# Altium integrated library Microchip PIC18.IntLib: 1897 symbols (part 80 of 110)
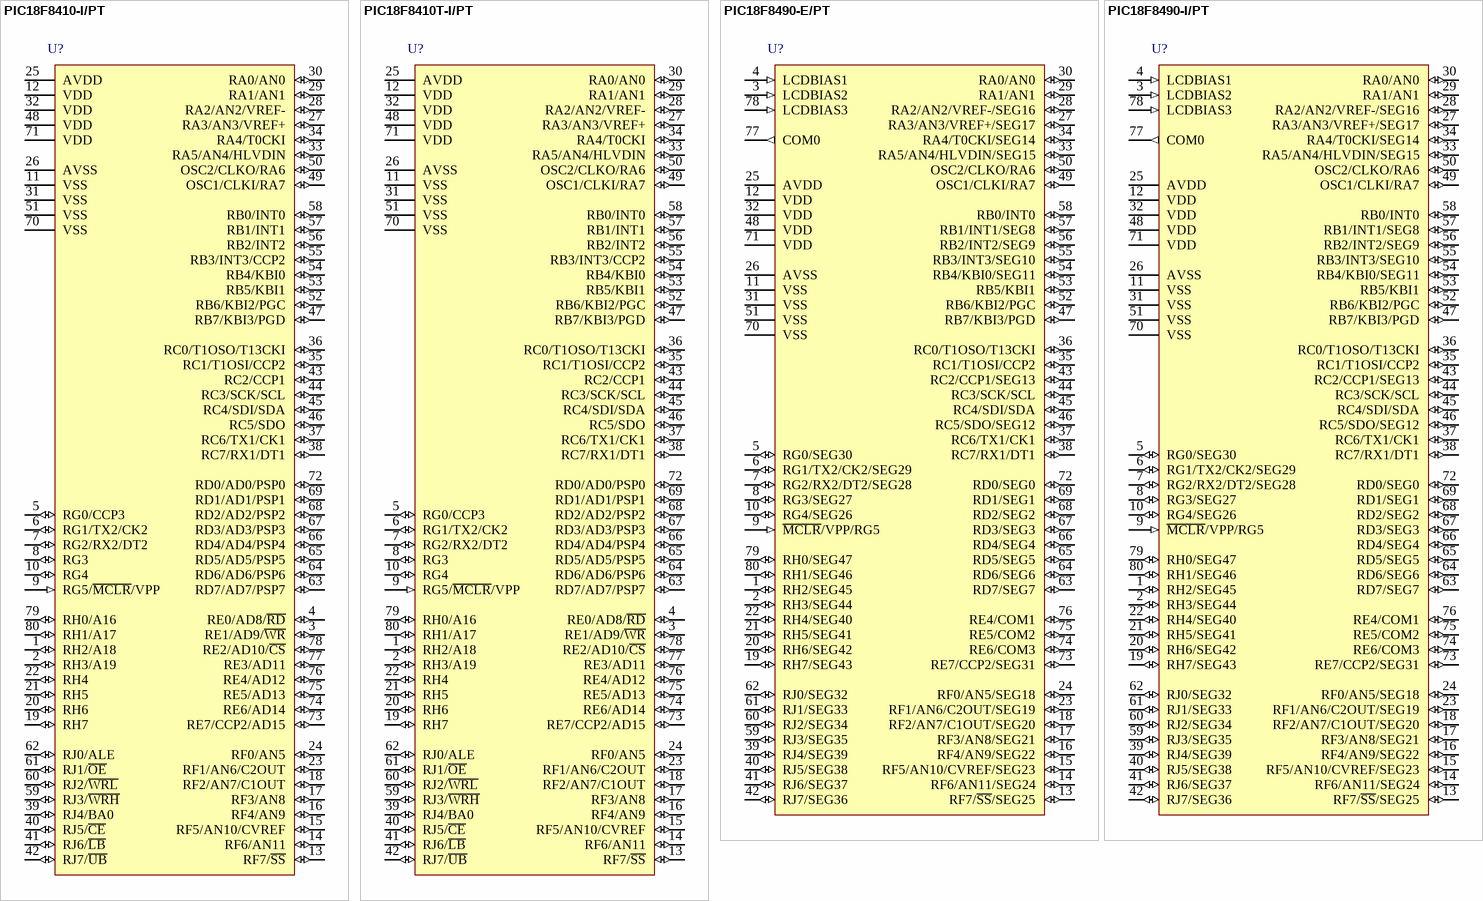
[diagram p362: symbols PIC18F8410-I/PT to PIC18F8490-I/PT]

## PIC18F8490-E/PT
designator U?
Flash Microcontroller with LCD Driver and nanoWatt Technology, 16K Flash, 80-Pin TQFP, Extended Temperature Range; Manufacturer: Microchip; PartNumber: PIC18F8490-E/PT; DatasheetVersion: revC, Nov-2007; PackageVersion: C04-092B, 12/2012; PackageReference: TQFP-PT80; PackageDescription: 80-Lead Plastic Thin Quad FlatPack, 12 x 12 mm Body, 0.5 mm Pitch; ComponentLink1Description: Manufacturer URL; ComponentLink1URL: http://www.microchip.com/; ComponentLink2Description: Datasheet; ComponentLink2URL: http://ww1.microchip.com/downloads/en/DeviceDoc/39629c.pdf; ComponentLink3Description: Package Specification; ComponentLink3URL: http://www.microchip.com/stellent/groups/techpub_sg/documents/packagingspec/en012702.pdf
footprint MCHP-TQFP-PT80_N (QFN, 80-Leads, Body 12x12mm, Pitch 0.5mm, IPC Medium Density)
footprint MCHP-TQFP-PT80_L (QFN, 80-Leads, Body 12x12mm, Pitch 0.5mm, IPC High Density)
footprint MCHP-TQFP-PT80_M (QFN, 80-Leads, Body 12x12mm, Pitch 0.5mm, IPC Low Density)
pins: 1 RH2/SEG45 (io), 2 RH3/SEG44 (io), 3 LCDBIAS2 (in), 4 LCDBIAS1 (in), 5 RG0/SEG30 (io), 6 RG1/TX2/CK2/SEG29 (io), 7 RG2/RX2/DT2/SEG28 (io), 8 RG3/SEG27 (io), 9 ~{MCLR}/VPP/RG5 (in), 10 RG4/SEG26 (io), 11 VSS (power), 12 VDD (power), 13 RF7/~{SS}/SEG25 (io), 14 RF6/AN11/SEG24 (io), 15 RF5/AN10/CVREF/SEG23 (io), 16 RF4/AN9/SEG22 (io), 17 RF3/AN8/SEG21 (io), 18 RF2/AN7/C1OUT/SEG20 (io), 19 RH7/SEG43 (io), 20 RH6/SEG42 (io), 21 RH5/SEG41 (io), 22 RH4/SEG40 (io), 23 RF1/AN6/C2OUT/SEG19 (io), 24 RF0/AN5/SEG18 (io), 25 AVDD (power), 26 AVSS (power), 27 RA3/AN3/VREF+/SEG17 (io), 28 RA2/AN2/VREF-/SEG16 (io), 29 RA1/AN1 (io), 30 RA0/AN0 (io), 31 VSS (power), 32 VDD (power), 33 RA5/AN4/HLVDIN/SEG15 (io), 34 RA4/T0CKI/SEG14 (io), 35 RC1/T1OSI/CCP2 (io), 36 RC0/T1OSO/T13CKI (io), 37 RC6/TX1/CK1 (io), 38 RC7/RX1/DT1 (io), 39 RJ4/SEG39 (io), 40 RJ5/SEG38 (io), 41 RJ6/SEG37 (io), 42 RJ7/SEG36 (io), 43 RC2/CCP1/SEG13 (io), 44 RC3/SCK/SCL (io), 45 RC4/SDI/SDA (io), 46 RC5/SDO/SEG12 (io), 47 RB7/KBI3/PGD (io), 48 VDD (power), 49 OSC1/CLKI/RA7 (io), 50 OSC2/CLKO/RA6 (io), 51 VSS (power), 52 RB6/KBI2/PGC (io), 53 RB5/KBI1 (io), 54 RB4/KBI0/SEG11 (io), 55 RB3/INT3/SEG10 (io), 56 RB2/INT2/SEG9 (io), 57 RB1/INT1/SEG8 (io), 58 RB0/INT0 (io), 59 RJ3/SEG35 (io), 60 RJ2/SEG34 (io), 61 RJ1/SEG33 (io), 62 RJ0/SEG32 (io), 63 RD7/SEG7 (io), 64 RD6/SEG6 (io), 65 RD5/SEG5 (io), 66 RD4/SEG4 (io), 67 RD3/SEG3 (io), 68 RD2/SEG2 (io), 69 RD1/SEG1 (io), 70 VSS (power), 71 VDD (power), 72 RD0/SEG0 (io), 73 RE7/CCP2/SEG31 (io), 74 RE6/COM3 (io), 75 RE5/COM2 (io), 76 RE4/COM1 (io), 77 COM0 (out), 78 LCDBIAS3 (in), 79 RH0/SEG47 (io), 80 RH1/SEG46 (io)

## PIC18F8490-I/PT
designator U?
Flash Microcontroller with LCD Driver and nanoWatt Technology, 16K Flash, 80-Pin TQFP, Industrial Temperature Range; Manufacturer: Microchip; PartNumber: PIC18F8490-I/PT; DatasheetVersion: revC, Nov-2007; PackageVersion: C04-092B, 12/2012; PackageReference: TQFP-PT80; PackageDescription: 80-Lead Plastic Thin Quad FlatPack, 12 x 12 mm Body, 0.5 mm Pitch; ComponentLink1Description: Manufacturer URL; ComponentLink1URL: http://www.microchip.com/; ComponentLink2Description: Datasheet; ComponentLink2URL: http://ww1.microchip.com/downloads/en/DeviceDoc/39629c.pdf; ComponentLink3Description: Package Specification; ComponentLink3URL: http://www.microchip.com/stellent/groups/techpub_sg/documents/packagingspec/en012702.pdf
footprint MCHP-TQFP-PT80_N (QFN, 80-Leads, Body 12x12mm, Pitch 0.5mm, IPC Medium Density)
footprint MCHP-TQFP-PT80_L (QFN, 80-Leads, Body 12x12mm, Pitch 0.5mm, IPC High Density)
footprint MCHP-TQFP-PT80_M (QFN, 80-Leads, Body 12x12mm, Pitch 0.5mm, IPC Low Density)
pins: 1 RH2/SEG45 (io), 2 RH3/SEG44 (io), 3 LCDBIAS2 (in), 4 LCDBIAS1 (in), 5 RG0/SEG30 (io), 6 RG1/TX2/CK2/SEG29 (io), 7 RG2/RX2/DT2/SEG28 (io), 8 RG3/SEG27 (io), 9 ~{MCLR}/VPP/RG5 (in), 10 RG4/SEG26 (io), 11 VSS (power), 12 VDD (power), 13 RF7/~{SS}/SEG25 (io), 14 RF6/AN11/SEG24 (io), 15 RF5/AN10/CVREF/SEG23 (io), 16 RF4/AN9/SEG22 (io), 17 RF3/AN8/SEG21 (io), 18 RF2/AN7/C1OUT/SEG20 (io), 19 RH7/SEG43 (io), 20 RH6/SEG42 (io), 21 RH5/SEG41 (io), 22 RH4/SEG40 (io), 23 RF1/AN6/C2OUT/SEG19 (io), 24 RF0/AN5/SEG18 (io), 25 AVDD (power), 26 AVSS (power), 27 RA3/AN3/VREF+/SEG17 (io), 28 RA2/AN2/VREF-/SEG16 (io), 29 RA1/AN1 (io), 30 RA0/AN0 (io), 31 VSS (power), 32 VDD (power), 33 RA5/AN4/HLVDIN/SEG15 (io), 34 RA4/T0CKI/SEG14 (io), 35 RC1/T1OSI/CCP2 (io), 36 RC0/T1OSO/T13CKI (io), 37 RC6/TX1/CK1 (io), 38 RC7/RX1/DT1 (io), 39 RJ4/SEG39 (io), 40 RJ5/SEG38 (io), 41 RJ6/SEG37 (io), 42 RJ7/SEG36 (io), 43 RC2/CCP1/SEG13 (io), 44 RC3/SCK/SCL (io), 45 RC4/SDI/SDA (io), 46 RC5/SDO/SEG12 (io), 47 RB7/KBI3/PGD (io), 48 VDD (power), 49 OSC1/CLKI/RA7 (io), 50 OSC2/CLKO/RA6 (io), 51 VSS (power), 52 RB6/KBI2/PGC (io), 53 RB5/KBI1 (io), 54 RB4/KBI0/SEG11 (io), 55 RB3/INT3/SEG10 (io), 56 RB2/INT2/SEG9 (io), 57 RB1/INT1/SEG8 (io), 58 RB0/INT0 (io), 59 RJ3/SEG35 (io), 60 RJ2/SEG34 (io), 61 RJ1/SEG33 (io), 62 RJ0/SEG32 (io), 63 RD7/SEG7 (io), 64 RD6/SEG6 (io), 65 RD5/SEG5 (io), 66 RD4/SEG4 (io), 67 RD3/SEG3 (io), 68 RD2/SEG2 (io), 69 RD1/SEG1 (io), 70 VSS (power), 71 VDD (power), 72 RD0/SEG0 (io), 73 RE7/CCP2/SEG31 (io), 74 RE6/COM3 (io), 75 RE5/COM2 (io), 76 RE4/COM1 (io), 77 COM0 (out), 78 LCDBIAS3 (in), 79 RH0/SEG47 (io), 80 RH1/SEG46 (io)

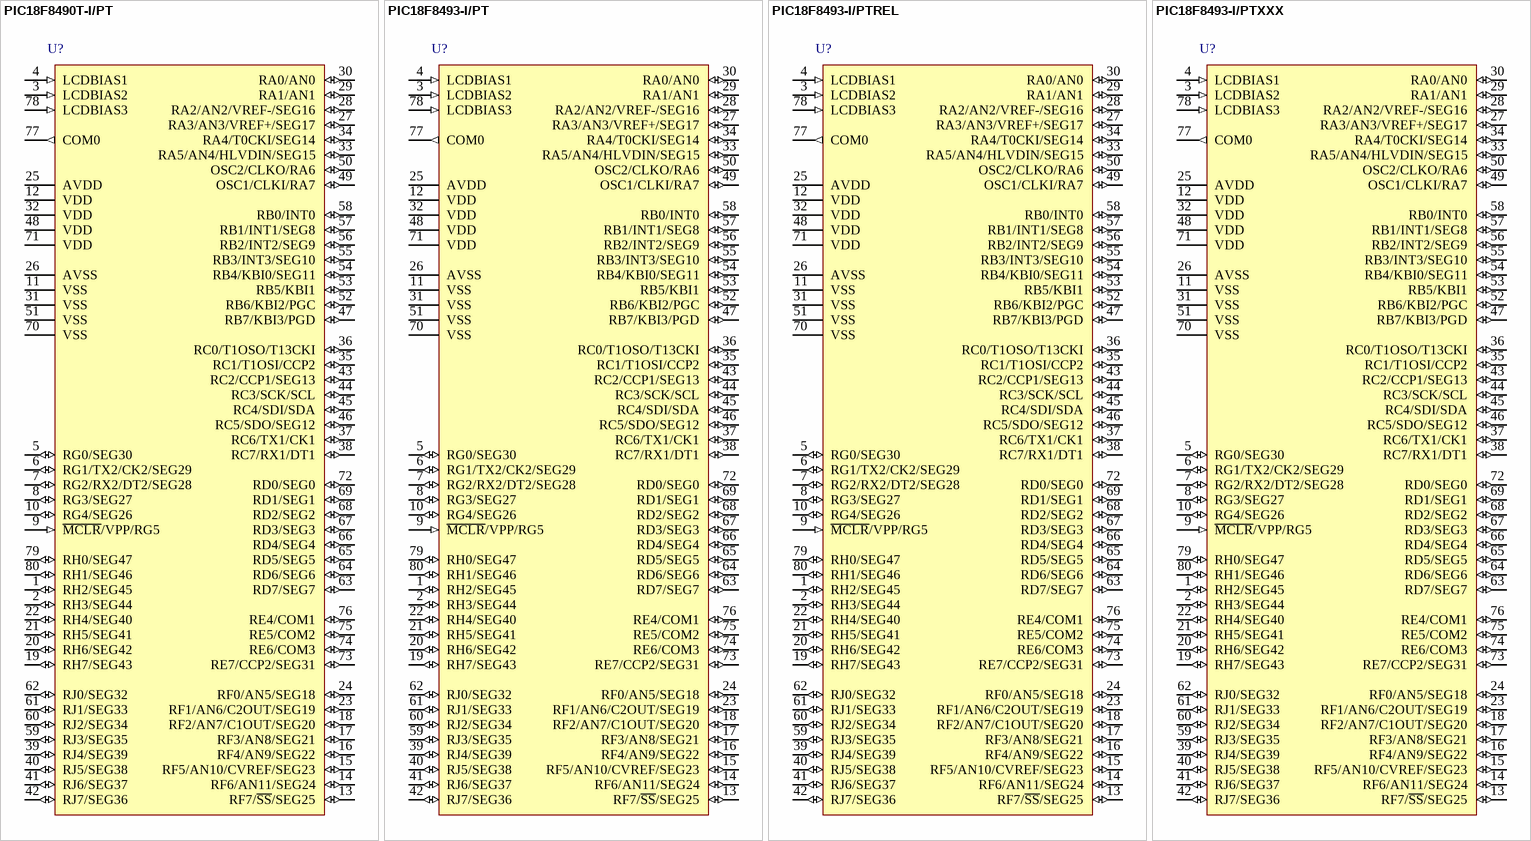
[diagram p144: symbols PIC18F8490T-I/PT to PIC18F8493-I/PTXXX]

## PIC18F8490T-I/PT
designator U?
Flash Microcontroller with LCD Driver and nanoWatt Technology, 16K Flash, 80-Pin TQFP, Industrial Temperature Range, Tape and Reel; Manufacturer: Microchip; PartNumber: PIC18F8490T-I/PT; DatasheetVersion: revC, Nov-2007; PackageVersion: C04-092B, 12/2012; PackageReference: TQFP-PT80; PackageDescription: 80-Lead Plastic Thin Quad FlatPack, 12 x 12 mm Body, 0.5 mm Pitch; ComponentLink1Description: Manufacturer URL; ComponentLink1URL: http://www.microchip.com/; ComponentLink2Description: Datasheet; ComponentLink2URL: http://ww1.microchip.com/downloads/en/DeviceDoc/39629c.pdf; ComponentLink3Description: Package Specification; ComponentLink3URL: http://www.microchip.com/stellent/groups/techpub_sg/documents/packagingspec/en012702.pdf
footprint MCHP-TQFP-PT80_N (QFN, 80-Leads, Body 12x12mm, Pitch 0.5mm, IPC Medium Density)
footprint MCHP-TQFP-PT80_L (QFN, 80-Leads, Body 12x12mm, Pitch 0.5mm, IPC High Density)
footprint MCHP-TQFP-PT80_M (QFN, 80-Leads, Body 12x12mm, Pitch 0.5mm, IPC Low Density)
pins: 1 RH2/SEG45 (io), 2 RH3/SEG44 (io), 3 LCDBIAS2 (in), 4 LCDBIAS1 (in), 5 RG0/SEG30 (io), 6 RG1/TX2/CK2/SEG29 (io), 7 RG2/RX2/DT2/SEG28 (io), 8 RG3/SEG27 (io), 9 ~{MCLR}/VPP/RG5 (in), 10 RG4/SEG26 (io), 11 VSS (power), 12 VDD (power), 13 RF7/~{SS}/SEG25 (io), 14 RF6/AN11/SEG24 (io), 15 RF5/AN10/CVREF/SEG23 (io), 16 RF4/AN9/SEG22 (io), 17 RF3/AN8/SEG21 (io), 18 RF2/AN7/C1OUT/SEG20 (io), 19 RH7/SEG43 (io), 20 RH6/SEG42 (io), 21 RH5/SEG41 (io), 22 RH4/SEG40 (io), 23 RF1/AN6/C2OUT/SEG19 (io), 24 RF0/AN5/SEG18 (io), 25 AVDD (power), 26 AVSS (power), 27 RA3/AN3/VREF+/SEG17 (io), 28 RA2/AN2/VREF-/SEG16 (io), 29 RA1/AN1 (io), 30 RA0/AN0 (io), 31 VSS (power), 32 VDD (power), 33 RA5/AN4/HLVDIN/SEG15 (io), 34 RA4/T0CKI/SEG14 (io), 35 RC1/T1OSI/CCP2 (io), 36 RC0/T1OSO/T13CKI (io), 37 RC6/TX1/CK1 (io), 38 RC7/RX1/DT1 (io), 39 RJ4/SEG39 (io), 40 RJ5/SEG38 (io), 41 RJ6/SEG37 (io), 42 RJ7/SEG36 (io), 43 RC2/CCP1/SEG13 (io), 44 RC3/SCK/SCL (io), 45 RC4/SDI/SDA (io), 46 RC5/SDO/SEG12 (io), 47 RB7/KBI3/PGD (io), 48 VDD (power), 49 OSC1/CLKI/RA7 (io), 50 OSC2/CLKO/RA6 (io), 51 VSS (power), 52 RB6/KBI2/PGC (io), 53 RB5/KBI1 (io), 54 RB4/KBI0/SEG11 (io), 55 RB3/INT3/SEG10 (io), 56 RB2/INT2/SEG9 (io), 57 RB1/INT1/SEG8 (io), 58 RB0/INT0 (io), 59 RJ3/SEG35 (io), 60 RJ2/SEG34 (io), 61 RJ1/SEG33 (io), 62 RJ0/SEG32 (io), 63 RD7/SEG7 (io), 64 RD6/SEG6 (io), 65 RD5/SEG5 (io), 66 RD4/SEG4 (io), 67 RD3/SEG3 (io), 68 RD2/SEG2 (io), 69 RD1/SEG1 (io), 70 VSS (power), 71 VDD (power), 72 RD0/SEG0 (io), 73 RE7/CCP2/SEG31 (io), 74 RE6/COM3 (io), 75 RE5/COM2 (io), 76 RE4/COM1 (io), 77 COM0 (out), 78 LCDBIAS3 (in), 79 RH0/SEG47 (io), 80 RH1/SEG46 (io)

## PIC18F8493-I/PT
designator U?
High Performance, Flash Microcontroller with LCD Driver, 12-Bit ADC and nanoWatt Technology, 16K Flash, 80-Pin TQFP, Industrial Temperature Range; Manufacturer: Microchip; PartNumber: PIC18F8493-I/PT; DatasheetVersion: revB, Oct-2009; PackageVersion: C04-092B, 12/2012; PackageReference: TQFP-PT80; PackageDescription: 80-Lead Plastic Thin Quad FlatPack, 12 x 12 mm Body, 0.5 mm Pitch; ComponentLink1Description: Manufacturer URL; ComponentLink1URL: http://www.microchip.com/; ComponentLink2Description: Datasheet; ComponentLink2URL: http://ww1.microchip.com/downloads/en/DeviceDoc/39896b.pdf; ComponentLink3Description: Package Specification; ComponentLink3URL: http://www.microchip.com/stellent/groups/techpub_sg/documents/packagingspec/en012702.pdf
footprint MCHP-TQFP-PT80_N (QFN, 80-Leads, Body 12x12mm, Pitch 0.5mm, IPC Medium Density)
footprint MCHP-TQFP-PT80_L (QFN, 80-Leads, Body 12x12mm, Pitch 0.5mm, IPC High Density)
footprint MCHP-TQFP-PT80_M (QFN, 80-Leads, Body 12x12mm, Pitch 0.5mm, IPC Low Density)
pins: 1 RH2/SEG45 (io), 2 RH3/SEG44 (io), 3 LCDBIAS2 (in), 4 LCDBIAS1 (in), 5 RG0/SEG30 (io), 6 RG1/TX2/CK2/SEG29 (io), 7 RG2/RX2/DT2/SEG28 (io), 8 RG3/SEG27 (io), 9 ~{MCLR}/VPP/RG5 (in), 10 RG4/SEG26 (io), 11 VSS (power), 12 VDD (power), 13 RF7/~{SS}/SEG25 (io), 14 RF6/AN11/SEG24 (io), 15 RF5/AN10/CVREF/SEG23 (io), 16 RF4/AN9/SEG22 (io), 17 RF3/AN8/SEG21 (io), 18 RF2/AN7/C1OUT/SEG20 (io), 19 RH7/SEG43 (io), 20 RH6/SEG42 (io), 21 RH5/SEG41 (io), 22 RH4/SEG40 (io), 23 RF1/AN6/C2OUT/SEG19 (io), 24 RF0/AN5/SEG18 (io), 25 AVDD (power), 26 AVSS (power), 27 RA3/AN3/VREF+/SEG17 (io), 28 RA2/AN2/VREF-/SEG16 (io), 29 RA1/AN1 (io), 30 RA0/AN0 (io), 31 VSS (power), 32 VDD (power), 33 RA5/AN4/HLVDIN/SEG15 (io), 34 RA4/T0CKI/SEG14 (io), 35 RC1/T1OSI/CCP2 (io), 36 RC0/T1OSO/T13CKI (io), 37 RC6/TX1/CK1 (io), 38 RC7/RX1/DT1 (io), 39 RJ4/SEG39 (io), 40 RJ5/SEG38 (io), 41 RJ6/SEG37 (io), 42 RJ7/SEG36 (io), 43 RC2/CCP1/SEG13 (io), 44 RC3/SCK/SCL (io), 45 RC4/SDI/SDA (io), 46 RC5/SDO/SEG12 (io), 47 RB7/KBI3/PGD (io), 48 VDD (power), 49 OSC1/CLKI/RA7 (io), 50 OSC2/CLKO/RA6 (io), 51 VSS (power), 52 RB6/KBI2/PGC (io), 53 RB5/KBI1 (io), 54 RB4/KBI0/SEG11 (io), 55 RB3/INT3/SEG10 (io), 56 RB2/INT2/SEG9 (io), 57 RB1/INT1/SEG8 (io), 58 RB0/INT0 (io), 59 RJ3/SEG35 (io), 60 RJ2/SEG34 (io), 61 RJ1/SEG33 (io), 62 RJ0/SEG32 (io), 63 RD7/SEG7 (io), 64 RD6/SEG6 (io), 65 RD5/SEG5 (io), 66 RD4/SEG4 (io), 67 RD3/SEG3 (io), 68 RD2/SEG2 (io), 69 RD1/SEG1 (io), 70 VSS (power), 71 VDD (power), 72 RD0/SEG0 (io), 73 RE7/CCP2/SEG31 (io), 74 RE6/COM3 (io), 75 RE5/COM2 (io), 76 RE4/COM1 (io), 77 COM0 (out), 78 LCDBIAS3 (in), 79 RH0/SEG47 (io), 80 RH1/SEG46 (io)

## PIC18F8493-I/PTREL
designator U?
High Performance, Flash Microcontroller with LCD Driver, 12-Bit ADC and nanoWatt Technology, 16K Flash, 80-Pin TQFP, Industrial Temperature Range; Manufacturer: Microchip; PartNumber: PIC18F8493-I/PTREL; DatasheetVersion: revB, Oct-2009; PackageVersion: C04-092B, 12/2012; PackageReference: TQFP-PT80; PackageDescription: 80-Lead Plastic Thin Quad FlatPack, 12 x 12 mm Body, 0.5 mm Pitch; ComponentLink1Description: Manufacturer URL; ComponentLink1URL: http://www.microchip.com/; ComponentLink2Description: Datasheet; ComponentLink2URL: http://ww1.microchip.com/downloads/en/DeviceDoc/39896b.pdf; ComponentLink3Description: Package Specification; ComponentLink3URL: http://www.microchip.com/stellent/groups/techpub_sg/documents/packagingspec/en012702.pdf
footprint MCHP-TQFP-PT80_N (QFN, 80-Leads, Body 12x12mm, Pitch 0.5mm, IPC Medium Density)
footprint MCHP-TQFP-PT80_L (QFN, 80-Leads, Body 12x12mm, Pitch 0.5mm, IPC High Density)
footprint MCHP-TQFP-PT80_M (QFN, 80-Leads, Body 12x12mm, Pitch 0.5mm, IPC Low Density)
pins: 1 RH2/SEG45 (io), 2 RH3/SEG44 (io), 3 LCDBIAS2 (in), 4 LCDBIAS1 (in), 5 RG0/SEG30 (io), 6 RG1/TX2/CK2/SEG29 (io), 7 RG2/RX2/DT2/SEG28 (io), 8 RG3/SEG27 (io), 9 ~{MCLR}/VPP/RG5 (in), 10 RG4/SEG26 (io), 11 VSS (power), 12 VDD (power), 13 RF7/~{SS}/SEG25 (io), 14 RF6/AN11/SEG24 (io), 15 RF5/AN10/CVREF/SEG23 (io), 16 RF4/AN9/SEG22 (io), 17 RF3/AN8/SEG21 (io), 18 RF2/AN7/C1OUT/SEG20 (io), 19 RH7/SEG43 (io), 20 RH6/SEG42 (io), 21 RH5/SEG41 (io), 22 RH4/SEG40 (io), 23 RF1/AN6/C2OUT/SEG19 (io), 24 RF0/AN5/SEG18 (io), 25 AVDD (power), 26 AVSS (power), 27 RA3/AN3/VREF+/SEG17 (io), 28 RA2/AN2/VREF-/SEG16 (io), 29 RA1/AN1 (io), 30 RA0/AN0 (io), 31 VSS (power), 32 VDD (power), 33 RA5/AN4/HLVDIN/SEG15 (io), 34 RA4/T0CKI/SEG14 (io), 35 RC1/T1OSI/CCP2 (io), 36 RC0/T1OSO/T13CKI (io), 37 RC6/TX1/CK1 (io), 38 RC7/RX1/DT1 (io), 39 RJ4/SEG39 (io), 40 RJ5/SEG38 (io), 41 RJ6/SEG37 (io), 42 RJ7/SEG36 (io), 43 RC2/CCP1/SEG13 (io), 44 RC3/SCK/SCL (io), 45 RC4/SDI/SDA (io), 46 RC5/SDO/SEG12 (io), 47 RB7/KBI3/PGD (io), 48 VDD (power), 49 OSC1/CLKI/RA7 (io), 50 OSC2/CLKO/RA6 (io), 51 VSS (power), 52 RB6/KBI2/PGC (io), 53 RB5/KBI1 (io), 54 RB4/KBI0/SEG11 (io), 55 RB3/INT3/SEG10 (io), 56 RB2/INT2/SEG9 (io), 57 RB1/INT1/SEG8 (io), 58 RB0/INT0 (io), 59 RJ3/SEG35 (io), 60 RJ2/SEG34 (io), 61 RJ1/SEG33 (io), 62 RJ0/SEG32 (io), 63 RD7/SEG7 (io), 64 RD6/SEG6 (io), 65 RD5/SEG5 (io), 66 RD4/SEG4 (io), 67 RD3/SEG3 (io), 68 RD2/SEG2 (io), 69 RD1/SEG1 (io), 70 VSS (power), 71 VDD (power), 72 RD0/SEG0 (io), 73 RE7/CCP2/SEG31 (io), 74 RE6/COM3 (io), 75 RE5/COM2 (io), 76 RE4/COM1 (io), 77 COM0 (out), 78 LCDBIAS3 (in), 79 RH0/SEG47 (io), 80 RH1/SEG46 (io)